# EAGLE library part SLIDER160MM_RESINT (library alarm)
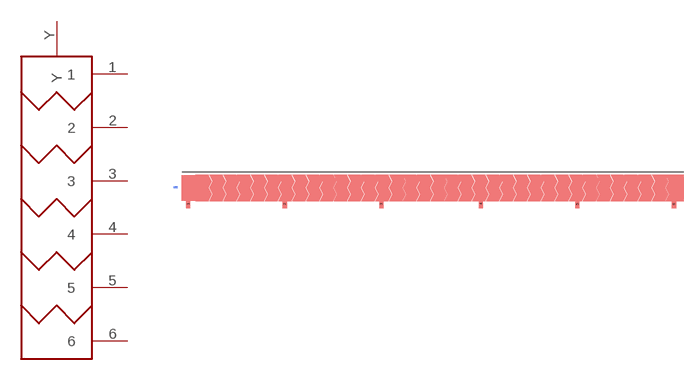
[diagram p1: symbol with the pads of SLIDER160MM_RI; footprint SLIDER160MM_RI]

Designator prefix -

## SLIDER160MM_RESINT  [SLIDER160MM_RI]
1  1
2  2
3  3
4  4
5  5
6  6
Y  Y

## Footprint SLIDER160MM_RI (pad centres in mm)
smd 1.27 x 2.54: 1 2,-9; 2 32,-9; 3 62,-9; 4 93,-9; 5 123,-9; 6 153,-9
smd 1.27 x 0.635 bottom: Y -1.905,-3.81